# EAGLE library part HEADER_2X15 (library pixhawk2)
2X15 header
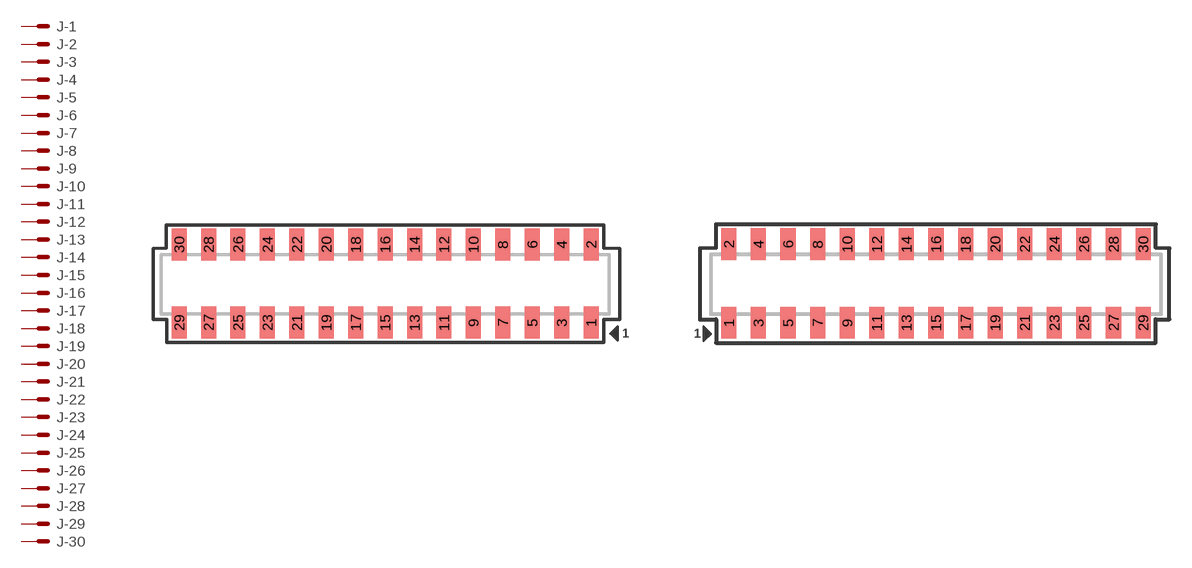
[diagram p15: symbol with the pads of HEADER_2MM_2X15; footprints HEADER_2MM_2X15, HEADER_2MM_2X15_REVERSE]

Designator prefix J; gates -1=M -2=M -3=M -4=M -5=M -6=M -7=M -8=M -9=M -10=M -11=M -12=M -13=M -14=M -15=M -16=M -17=M -18=M -19=M -20=M -21=M -22=M -23=M -24=M -25=M -26=M -27=M -28=M -29=M -30=M

## HEADER_2X15-SMD  [HEADER_2MM_2X15]
1  -1:S  pas
2  -2:S  pas
3  -3:S  pas
4  -4:S  pas
5  -5:S  pas
6  -6:S  pas
7  -7:S  pas
8  -8:S  pas
9  -9:S  pas
10  -10:S  pas
11  -11:S  pas
12  -12:S  pas
13  -13:S  pas
14  -14:S  pas
15  -15:S  pas
16  -16:S  pas
17  -17:S  pas
18  -18:S  pas
19  -19:S  pas
20  -20:S  pas
21  -21:S  pas
22  -22:S  pas
23  -23:S  pas
24  -24:S  pas
25  -25:S  pas
26  -26:S  pas
27  -27:S  pas
28  -28:S  pas
29  -29:S  pas
30  -30:S  pas

## HEADER_2X15-REV  [HEADER_2MM_2X15_REVERSE]
Pads as for HEADER_2MM_2X15

## HEADER_2X15-POGO  [HEADER_2MM_2X15_POGO]
Pads as for HEADER_2MM_2X15

## HEADER_2X15-POGO-REV  [HEADER_2MM_2X15_REVERSE_POGO]
Pads as for HEADER_2MM_2X15

## HEADER_2X15-2.54-TH-SHROUDED  [HEADER_2.54MM-2X15-SHROUDED_LOCK]
Pads as for HEADER_2MM_2X15

## HEADER_2X15-TH  [HEADER_2MM_2X15_TH]
Pads as for HEADER_2MM_2X15

## HEADER_2X15-TH-REV  [HEADER_2MM_2X15_TH_REVERSE]
Pads as for HEADER_2MM_2X15

## HEADER_2X15-2.54-PROTO  [HEADER_2.54MM_2X15_PROTO]
Pads as for HEADER_2MM_2X15

## HEADER_2X15-POGO-HOLE  [HEADER_2MM_2X15_POGO-HOLE]
P$1  -1:S  pas
P$2  -2:S  pas
P$3  -3:S  pas
P$4  -4:S  pas
P$5  -5:S  pas
P$6  -6:S  pas
P$7  -7:S  pas
P$8  -8:S  pas
P$9  -9:S  pas
P$10  -10:S  pas
P$11  -11:S  pas
P$12  -12:S  pas
P$13  -13:S  pas
P$14  -14:S  pas
P$15  -15:S  pas
P$16  -16:S  pas
P$17  -17:S  pas
P$18  -18:S  pas
P$19  -19:S  pas
P$20  -20:S  pas
P$21  -21:S  pas
P$22  -22:S  pas
P$23  -23:S  pas
P$24  -24:S  pas
P$25  -25:S  pas
P$26  -26:S  pas
P$27  -27:S  pas
P$28  -28:S  pas
P$29  -29:S  pas
P$30  -30:S  pas

## Footprint HEADER_2MM_2X15 (pad centres in mm)
2mm Surface Mount Box Connector Strip Assembly
smd 1.02 x 2.16: 1 14,-2.655; 2 14,2.655; 3 12,-2.655; 4 12,2.655; 5 10,-2.655; 6 10,2.655; 7 8,-2.655; 8 8,2.655; 9 6,-2.655; 10 6,2.655; 11 4,-2.655; 12 4,2.655; 13 2,-2.655; 14 2,2.655; 15 0,-2.655; 16 0,2.655; 17 -2,-2.655; 18 -2,2.655; 19 -4,-2.655; 20 -4,2.655; 21 -6,-2.655; 22 -6,2.655; 23 -8,-2.655; 24 -8,2.655; 25 -10,-2.655; 26 -10,2.655; 27 -12,-2.655; 28 -12,2.655; 29 -14,-2.655; 30 -14,2.655

## Footprint HEADER_2MM_2X15_REVERSE (pad centres in mm)
2mm Surface Mount Connector Strip Assembly, reversed for board-to-board mating
smd 1.02 x 2.16: 1 -14,-2.655; 2 -14,2.655; 3 -12,-2.655; 4 -12,2.655; 5 -10,-2.655; 6 -10,2.655; 7 -8,-2.655; 8 -8,2.655; 9 -6,-2.655; 10 -6,2.655; 11 -4,-2.655; 12 -4,2.655; 13 -2,-2.655; 14 -2,2.655; 15 0,-2.655; 16 0,2.655; 17 2,-2.655; 18 2,2.655; 19 4,-2.655; 20 4,2.655; 21 6,-2.655; 22 6,2.655; 23 8,-2.655; 24 8,2.655; 25 10,-2.655; 26 10,2.655; 27 12,-2.655; 28 12,2.655; 29 14,-2.655; 30 14,2.655

## Footprint HEADER_2MM_2X15_POGO (pad centres in mm)
drill 1.1 pad 1.6 round: 1 14,-2; 2 14,2; 3 12,-3.3; 4 12,3.3; 5 10,-2; 6 10,2; 7 8,-3.3; 8 8,3.3; 9 6,-2; 10 6,2; 11 4,-3.3; 12 4,3.3; 13 2,-2; 14 2,2; 15 0,-3.3; 16 0,3.3; 17 -2,-2; 18 -2,2; 19 -4,-3.3; 20 -4,3.3; 21 -6,-2; 22 -6,2; 23 -8,-3.3; 24 -8,3.3; 25 -10,-2; 26 -10,2; 27 -12,-3.3; 28 -12,3.3; 29 -14,-2; 30 -14,2

## Footprint HEADER_2MM_2X15_REVERSE_POGO (pad centres in mm)
drill 1.4 pad 2 round: 1 -14,-2; 2 -14,2; 3 -12,-3.3; 4 -12,3.3; 5 -10,-2; 6 -10,2; 7 -8,-3.3; 8 -8,3.3; 9 -6,-2; 10 -6,2; 11 -4,-3.3; 12 -4,3.3; 13 -2,-2; 14 -2,2; 15 0,-3.3; 16 0,3.3; 17 2,-2; 18 2,2; 19 4,-3.3; 20 4,3.3; 21 6,-2; 22 6,2; 23 8,-3.3; 24 8,3.3; 25 10,-2; 26 10,2; 27 12,-3.3; 28 12,3.3; 29 14,-2; 30 14,2

## Footprint HEADER_2.54MM-2X15-SHROUDED_LOCK (pad centres in mm)
drill 1.016 pad 1.88 octagon: 1 -1.397,17.78; 2 1.397,17.78; 3 -1.397,15.24; 4 1.397,15.24; 5 -1.397,12.7; 6 1.397,12.7; 7 -1.397,10.16; 8 1.397,10.16; 9 -1.397,7.62; 10 1.397,7.62; 11 -1.397,5.08; 12 1.397,5.08; 13 -1.397,2.54; 14 1.397,2.54; 15 -1.397,0; 16 1.397,0; 17 -1.397,-2.54; 18 1.397,-2.54; 19 -1.397,-5.08; 20 1.397,-5.08; 21 -1.397,-7.62; 22 1.397,-7.62; 23 -1.397,-10.16; 24 1.397,-10.16; 25 -1.397,-12.7; 26 1.397,-12.7; 27 -1.397,-15.24; 28 1.397,-15.24; 29 -1.397,-17.78; 30 1.397,-17.78

## Footprint HEADER_2MM_2X15_TH (pad centres in mm)
2 mm 30 pos Dual-Row Through-Hole Header e.g. 3M product 951230-8622-AR
drill 0.8 square: 1 14,-1
drill 0.8 round: 2 14,1; 3 12,-1; 4 12,1; 5 10,-1; 6 10,1; 7 8,-1; 8 8,1; 9 6,-1; 10 6,1; 11 4,-1; 12 4,1; 13 2,-1; 14 2,1; 15 0,-1; 16 0,1; 17 -2,-1; 18 -2,1; 19 -4,-1; 20 -4,1; 21 -6,-1; 22 -6,1; 23 -8,-1; 24 -8,1; 25 -10,-1; 26 -10,1; 27 -12,-1; 28 -12,1; 29 -14,-1; 30 -14,1

## Footprint HEADER_2MM_2X15_TH_REVERSE (pad centres in mm)
2 MM 30 pos Dual-Row Header e.g. 3M product 951230-8622-AR
drill 0.8 square: 1 -14,-1
drill 0.8 round: 2 -14,1; 3 -12,-1; 4 -12,1; 5 -10,-1; 6 -10,1; 7 -8,-1; 8 -8,1; 9 -6,-1; 10 -6,1; 11 -4,-1; 12 -4,1; 13 -2,-1; 14 -2,1; 15 0,-1; 16 0,1; 17 2,-1; 18 2,1; 19 4,-1; 20 4,1; 21 6,-1; 22 6,1; 23 8,-1; 24 8,1; 25 10,-1; 26 10,1; 27 12,-1; 28 12,1; 29 14,-1; 30 14,1

## Footprint HEADER_2.54MM_2X15_PROTO (pad centres in mm)
drill 1 offset: 1 17.78,-1.27; 2 17.78,1.27; 3 15.24,-1.27; 4 15.24,1.27; 5 12.7,-1.27; 6 12.7,1.27; 7 10.16,-1.27; 8 10.16,1.27; 9 7.62,-1.27; 10 7.62,1.27; 11 5.08,-1.27; 12 5.08,1.27; 13 2.54,-1.27; 14 2.54,1.27; 15 0,-1.27; 16 0,1.27; 17 -2.54,-1.27; 18 -2.54,1.27; 19 -5.08,-1.27; 20 -5.08,1.27; 21 -7.62,-1.27; 22 -7.62,1.27; 23 -10.16,-1.27; 24 -10.16,1.27; 25 -12.7,-1.27; 26 -12.7,1.27; 27 -15.24,-1.27; 28 -15.24,1.27; 29 -17.78,-1.27; 30 -17.78,1.27

## Footprint HEADER_2MM_2X15_POGO-HOLE (pad centres in mm)
smd 0.25 x 0.25 bottom: P$1 -14,3.5; P$2 -12,2; P$3 -10,3.5; P$4 -8,2; P$5 -6,3.5; P$6 -4,2; P$7 -2,3.5; P$8 0,2; P$9 2,3.5; P$10 4,2; P$11 6,3.5; P$12 8,2; P$13 10,3.5; P$14 12,2; P$15 14,3.5; P$16 14,-3.5; P$17 12,-2; P$18 10,-3.5; P$19 8,-2; P$20 6,-3.5; P$21 4,-2; P$22 2,-3.5; P$23 0,-2; P$24 -2,-3.5; P$25 -4,-2; P$26 -6,-3.5; P$27 -8,-2; P$28 -10,-3.5; P$29 -12,-2; P$30 -14,-3.5
hole 1.45 at -14,2
hole 1.45 at -10,2
hole 1.45 at -6,2
hole 1.45 at -12,3.3
hole 1.45 at -8,3.3
hole 1.45 at -12,-3.3
hole 1.45 at -4,3.3
hole 1.45 at 0,3.3
hole 1.45 at 4,3.3
hole 1.45 at 8,3.3
hole 1.45 at 12,3.3
hole 1.45 at -2,2
hole 1.45 at 2,2
hole 1.45 at 6,2
hole 1.45 at 10,2
hole 1.45 at 14,2
hole 1.45 at -14,-2
hole 1.45 at -8,-3.3
hole 1.45 at -4,-3.3
hole 1.45 at 0,-3.3
hole 1.45 at 4,-3.3
hole 1.45 at 8,-3.3
hole 1.45 at 12,-3.3
hole 1.45 at -10,-2
hole 1.45 at -6,-2
hole 1.45 at -2,-2
hole 1.45 at 2,-2
hole 1.45 at 6,-2
hole 1.45 at 10,-2
hole 1.45 at 14,-2